# EAGLE library part DASH (library dash-brd)
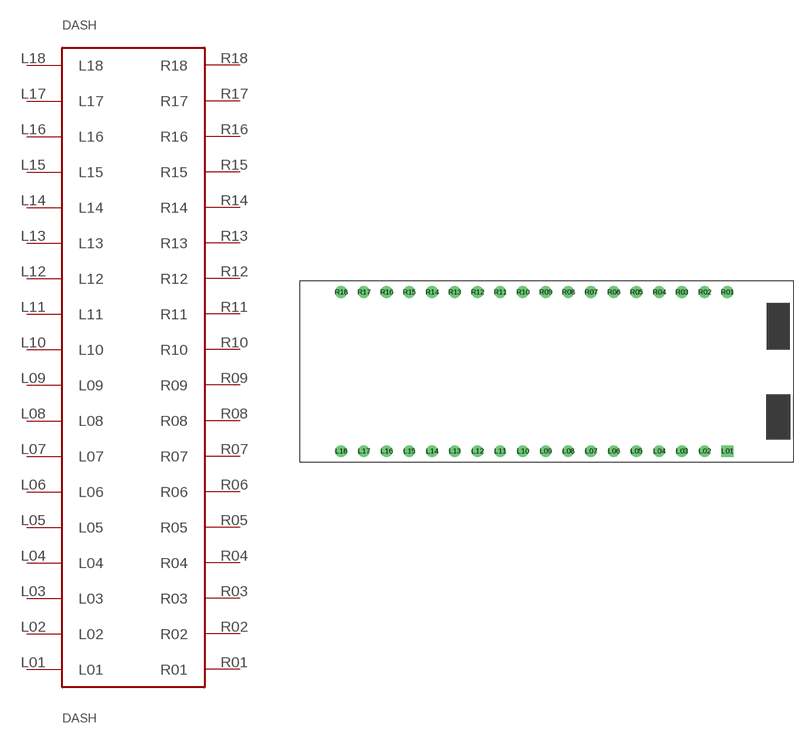
[diagram p0: symbol with the pads of DASH; footprint DASH]

Designator prefix DASH

## DASH  [DASH]
L01  L01
L02  L02
L03  L03
L04  L04
L05  L05
L06  L06
L07  L07
L08  L08
L09  L09
L10  L10
L11  L11
L12  L12
L13  L13
L14  L14
L15  L15
L16  L16
L17  L17
L18  L18
R01  R01
R02  R02
R03  R03
R04  R04
R05  R05
R06  R06
R07  R07
R08  R08
R09  R09
R10  R10
R11  R11
R12  R12
R13  R13
R14  R14
R15  R15
R16  R16
R17  R17
R18  R18

## Footprint DASH (pad centres in mm)
drill 0.8 square: L01 47.625,1.27
drill 0.8: L02 45.085,1.27; L03 42.545,1.27; L04 40.005,1.27; L05 37.465,1.27; L06 34.925,1.27; L07 32.385,1.27; L08 29.845,1.27; L09 27.305,1.27; L10 24.765,1.27; L11 22.225,1.27; L12 19.685,1.27; L13 17.145,1.27; L14 14.605,1.27; L15 12.065,1.27; L16 9.525,1.27; L17 6.985,1.27; L18 4.445,1.27; R01 47.625,19.05; R02 45.085,19.05; R03 42.545,19.05; R04 40.005,19.05; R05 37.465,19.05; R06 34.925,19.05; R07 32.385,19.05; R08 29.845,19.05; R09 27.305,19.05; R10 24.765,19.05; R11 22.225,19.05; R12 19.685,19.05; R13 17.145,19.05; R14 14.605,19.05; R15 12.065,19.05; R16 9.525,19.05; R17 6.985,19.05; R18 4.445,19.05